# EAGLE library part CYUSB3014-BZXI (library My_Library)
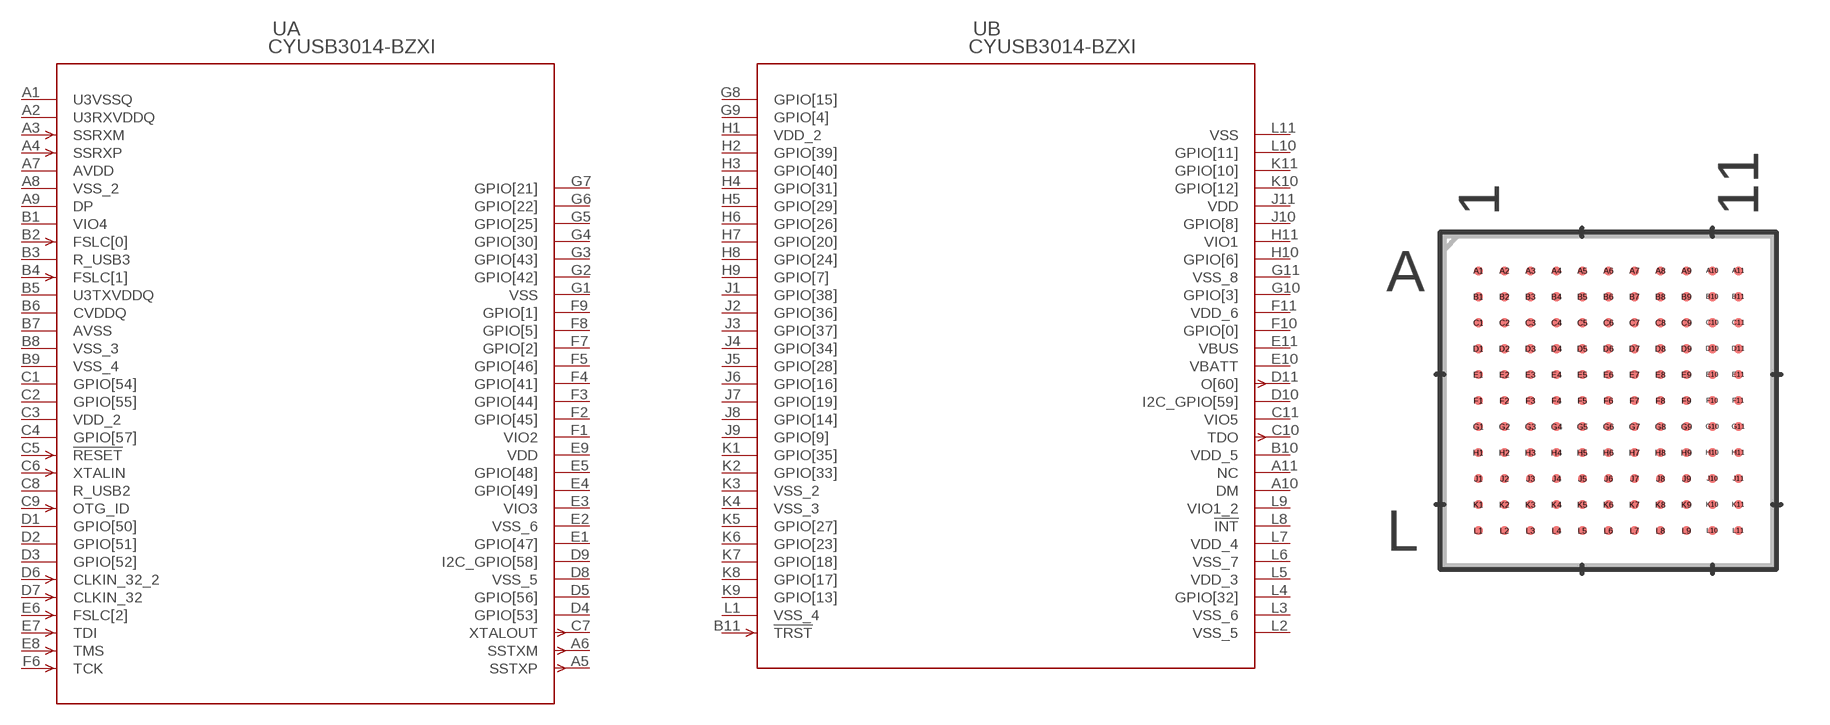
[diagram p13: symbol with the pads of BGA-121; footprint BGA-121]

Designator prefix U; gates A=CYUSB3014-BZXI_A B=CYUSB3014-BZXI_B

## CYUSB3014-BZXI (COPYRIGHT: Copyright (C) 2024 Ultra Librarian. All rights reserved.; MANUFACTURER_PART_NUMBER: CYUSB3014-BZXI; MFR_NAME: Cypress Semiconductor)  [BGA-121]
A1  A:U3VSSQ  pwr
A2  A:U3RXVDDQ  pwr
A3  A:SSRXM  in
A4  A:SSRXP  in
A5  A:SSTXP  out
A6  A:SSTXM  out
A7  A:AVDD  pwr
A8  A:VSS_2  pwr
A9  A:DP  pas
A10  B:DM  pas
A11  B:NC  nc
B1  A:VIO4  pas
B2  A:FSLC[0]  in
B3  A:R_USB3  pas
B4  A:FSLC[1]  in
B5  A:U3TXVDDQ  pwr
B6  A:CVDDQ  pwr
B7  A:AVSS  pwr
B8  A:VSS_3  pwr
B9  A:VSS_4  pwr
B10  B:VDD_5  pwr
B11  B:!TRST  in
C1  A:GPIO[54]  pas
C2  A:GPIO[55]  pas
C3  A:VDD_2  pwr
C4  A:GPIO[57]  pas
C5  A:!RESET  in
C6  A:XTALIN  in
C7  A:XTALOUT  out
C8  A:R_USB2  pas
C9  A:OTG_ID  in
C10  B:TDO  out
C11  B:VIO5  pas
D1  A:GPIO[50]  pas
D2  A:GPIO[51]  pas
D3  A:GPIO[52]  pas
D4  A:GPIO[53]  pas
D5  A:GPIO[56]  pas
D6  A:CLKIN_32_2  in
D7  A:CLKIN_32  in
D8  A:VSS_5  pwr
D9  A:I2C_GPIO[58]  pas
D10  B:I2C_GPIO[59]  pas
D11  B:O[60]  out
E1  A:GPIO[47]  pas
E2  A:VSS_6  pwr
E3  A:VIO3  pas
E4  A:GPIO[49]  pas
E5  A:GPIO[48]  pas
E6  A:FSLC[2]  in
E7  A:TDI  in
E8  A:TMS  in
E9  A:VDD  pwr
E10  B:VBATT  pwr
E11  B:VBUS  pwr
F1  A:VIO2  pas
F2  A:GPIO[45]  pas
F3  A:GPIO[44]  pas
F4  A:GPIO[41]  pas
F5  A:GPIO[46]  pas
F6  A:TCK  in
F7  A:GPIO[2]  pas
F8  A:GPIO[5]  pas
F9  A:GPIO[1]  pas
F10  B:GPIO[0]  pas
F11  B:VDD_6  pwr
G1  A:VSS  pwr
G2  A:GPIO[42]  pas
G3  A:GPIO[43]  pas
G4  A:GPIO[30]  pas
G5  A:GPIO[25]  pas
G6  A:GPIO[22]  pas
G7  A:GPIO[21]  pas
G8  B:GPIO[15]  pas
G9  B:GPIO[4]  pas
G10  B:GPIO[3]  pas
G11  B:VSS_8  pwr
H1  B:VDD_2  pwr
H2  B:GPIO[39]  pas
H3  B:GPIO[40]  pas
H4  B:GPIO[31]  pas
H5  B:GPIO[29]  pas
H6  B:GPIO[26]  pas
H7  B:GPIO[20]  pas
H8  B:GPIO[24]  pas
H9  B:GPIO[7]  pas
H10  B:GPIO[6]  pas
H11  B:VIO1  pas
J1  B:GPIO[38]  pas
J2  B:GPIO[36]  pas
J3  B:GPIO[37]  pas
J4  B:GPIO[34]  pas
J5  B:GPIO[28]  pas
J6  B:GPIO[16]  pas
J7  B:GPIO[19]  pas
J8  B:GPIO[14]  pas
J9  B:GPIO[9]  pas
J10  B:GPIO[8]  pas
J11  B:VDD  pwr
K1  B:GPIO[35]  pas
K2  B:GPIO[33]  pas
K3  B:VSS_2  pwr
K4  B:VSS_3  pwr
K5  B:GPIO[27]  pas
K6  B:GPIO[23]  pas
K7  B:GPIO[18]  pas
K8  B:GPIO[17]  pas
K9  B:GPIO[13]  pas
K10  B:GPIO[12]  pas
K11  B:GPIO[10]  pas
L1  B:VSS_4  pwr
L2  B:VSS_5  pwr
L3  B:VSS_6  pwr
L4  B:GPIO[32]  pas
L5  B:VDD_3  pwr
L6  B:VSS_7  pwr
L7  B:VDD_4  pwr
L8  B:!INT  pas
L9  B:VIO1_2  pas
L10  B:GPIO[11]  pas
L11  B:VSS  pwr

## Footprint BGA-121 (pad centres in mm)
smd 0.279 x 0.279: A1 -4,4; A2 -3.2,4; A3 -2.4,4; A4 -1.6,4; A5 -0.8,4; A6 0,4; A7 0.8,4; A8 1.6,4; A9 2.4,4; A10 3.2,4; A11 4,4; B1 -4,3.2; B2 -3.2,3.2; B3 -2.4,3.2; B4 -1.6,3.2; B5 -0.8,3.2; B6 0,3.2; B7 0.8,3.2; B8 1.6,3.2; B9 2.4,3.2; B10 3.2,3.2; B11 4,3.2; C1 -4,2.4; C2 -3.2,2.4; C3 -2.4,2.4; C4 -1.6,2.4; C5 -0.8,2.4; C6 0,2.4; C7 0.8,2.4; C8 1.6,2.4; C9 2.4,2.4; C10 3.2,2.4; C11 4,2.4; D1 -4,1.6; D2 -3.2,1.6; D3 -2.4,1.6; D4 -1.6,1.6; D5 -0.8,1.6; D6 0,1.6; D7 0.8,1.6; D8 1.6,1.6; D9 2.4,1.6; D10 3.2,1.6; D11 4,1.6; E1 -4,0.8; E2 -3.2,0.8; E3 -2.4,0.8; E4 -1.6,0.8; E5 -0.8,0.8; E6 0,0.8; E7 0.8,0.8; E8 1.6,0.8; E9 2.4,0.8; E10 3.2,0.8; E11 4,0.8; F1 -4,0; F2 -3.2,0; F3 -2.4,0; F4 -1.6,0; F5 -0.8,0; F6 0,0; F7 0.8,0; F8 1.6,0; F9 2.4,0; F10 3.2,0; F11 4,0; G1 -4,-0.8; G2 -3.2,-0.8; G3 -2.4,-0.8; G4 -1.6,-0.8; G5 -0.8,-0.8; G6 0,-0.8; G7 0.8,-0.8; G8 1.6,-0.8; G9 2.4,-0.8; G10 3.2,-0.8; G11 4,-0.8; H1 -4,-1.6; H2 -3.2,-1.6; H3 -2.4,-1.6; H4 -1.6,-1.6; H5 -0.8,-1.6; H6 0,-1.6; H7 0.8,-1.6; H8 1.6,-1.6; H9 2.4,-1.6; H10 3.2,-1.6; H11 4,-1.6; J1 -4,-2.4; J2 -3.2,-2.4; J3 -2.4,-2.4; J4 -1.6,-2.4; J5 -0.8,-2.4; J6 0,-2.4; J7 0.8,-2.4; J8 1.6,-2.4; J9 2.4,-2.4; J10 3.2,-2.4; J11 4,-2.4; K1 -4,-3.2; K2 -3.2,-3.2; K3 -2.4,-3.2; K4 -1.6,-3.2; K5 -0.8,-3.2; K6 0,-3.2; K7 0.8,-3.2; K8 1.6,-3.2; K9 2.4,-3.2; K10 3.2,-3.2; K11 4,-3.2; L1 -4,-4; L2 -3.2,-4; L3 -2.4,-4; L4 -1.6,-4; L5 -0.8,-4; L6 0,-4; L7 0.8,-4; L8 1.6,-4; L9 2.4,-4; L10 3.2,-4; L11 4,-4